# Altium schematic symbol library NMH2409SC.SchLib: 1 symbol
Pins are listed as number, name and electrical type; pins without a type are passive.

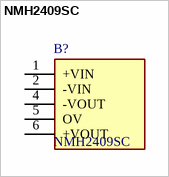
[diagram p0: symbol NMH2409SC]

## NMH2409SC
designator B?
Isolated DC/DC Converters - Through Hole 2W 24-9V SIP DUAL DC/DC; Manufacturer_Name: Murata Electronics; Geometry.Height: 10.25mm; Manufacturer_Part_Number: NMH2409SC; Mouser Part Number: 580-NMH2409SC; Mouser Price/Stock: https://www.mouser.co.uk/ProductDetail/Murata-Power-Solutions/NMH2409SC?qs=CFgoVw51%2FSCyyCPYvTDzbA%3D%3D; Arrow Part Number: NMH2409SC; Arrow Price/Stock: https://www.arrow.com/en/products/nmh2409sc/murata-power-solutions?region=nac; Datasheet Link: https://www.murata.com/products/productdata/8807031210014/kdc-nmh.pdf?1660879823000
footprint NMH2409SC
pins: 1 +VIN, 2 -VIN, 4 -VOUT, 5 OV, 6 +VOUT